# Altium footprint library SubG.PcbLib: 21 footprints (part 2 of 2)
Each footprint in its own frame and in the unit in brackets; x right, y up, seen from the top. Pads: shape width x height; smd on the part's side, far side on the other; paste and mask are expansions set on the pad; w line width, h text height; cw(c..) or ccw(c..) is an arc to the next point about the centre after c.
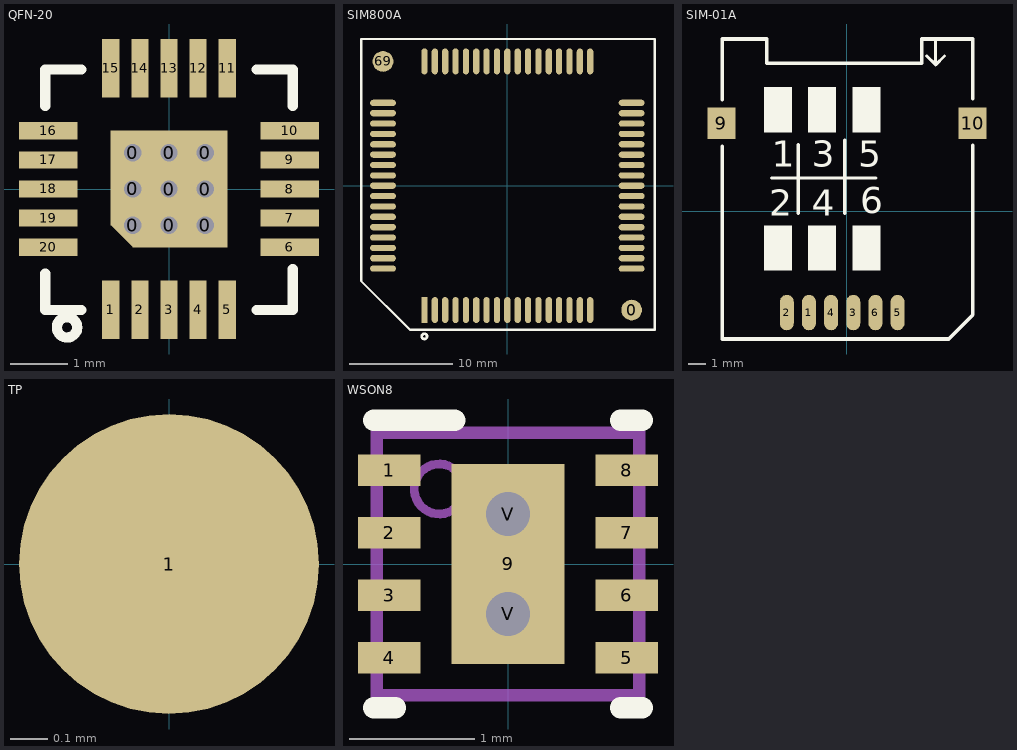
[diagram p1: the footprints below, top view; thin cyan lines are the x and y axes]

## QFN-20 [mil] "SI4463"
pads (29):
  rect 21x21 / inner rect 30x30 / far side rect 30x30 hole 12 rot 135: 0(-25,-25)
  rect 30x50 / inner rect 30x30 / far side rect 30x30 hole 12: 0(-25,0)
  rect 30x30 hole 12: 0(-25,25) 0(0,25) 0(25,-25) 0(25,0) 0(25,25)
  rect 50x30 / inner rect 30x30 / far side rect 30x30 hole 12: 0(0,-25)
  round 30 / inner rect 30x30 / far side rect 30x30 hole 12: 0(0,0)
  rect 11.81x40 smd: 1(-40,-83) 2(-20,-83) 3(0,-83) 4(20,-83) 5(40,-83) 11(40,83) 12(20,83) 13(0,83) 14(-20,83) 15(-40,83)
  rect 40x11.81 smd: 6(83,-40) 7(83,-20) 8(83,0) 9(83,20) 10(83,40) 16(-83,40) 17(-83,20) 18(-83,0) 19(-83,-20) 20(-83,-40)
Top Overlay:
  circle w7: c-70,-95 r7
  lines w7: -85,-58 -85,-83 -60,-83 ; -85,57 -85,82 -60,82 ; 60,-83 85,-83 85,-58 ; 60,82 85,82 ; 70,82 85,82 ; 85,-73 85,-55 ; 85,57 85,82

## SIM800A [mm] "SIM800A GPRS"
pads (70):
  round 2 smd: 0(12,-12) 69(-12,12)
  rect 0.6x2.5 smd: 1(-8,-12)
  oval 0.6x2.5 smd: 2(-7,-12) 3(-6,-12) 4(-5,-12) 5(-4,-12) 6(-3,-12) 7(-2,-12) 8(-1,-12) 9(0,-12) 10(1,-12) 11(2,-12) 12(3,-12) 13(4,-12) 14(5,-12) 15(6,-12) 16(7,-12) 17(8,-12) 35(8,12) 36(7,12) 37(6,12) 38(5,12) 39(4,12) 40(3,12) 41(2,12) 42(1,12) 43(0,12) 44(-1,12) 45(-2,12) 46(-3,12) 47(-4,12) 48(-5,12) 49(-6,12) 50(-7,12) 51(-8,12)
  oval 2.5x0.6 smd: 18(12,-8) 19(12,-7) 20(12,-6) 21(12,-5) 22(12,-4) 23(12,-3) 24(12,-2) 25(12,-1) 26(12,0) 27(12,1) 28(12,2) 29(12,3) 30(12,4) 31(12,5) 32(12,6) 33(12,7) 34(12,8) 52(-12,8) 53(-12,7) 54(-12,6) 55(-12,5) 56(-12,4) 57(-12,3) 58(-12,2) 59(-12,1) 60(-12,0) 61(-12,-1) 62(-12,-2) 63(-12,-3) 64(-12,-4) 65(-12,-5) 66(-12,-6) 67(-12,-7) 68(-12,-8)
Top Overlay:
  circle w0.254: c-8,-14.54 r0.254
  lines w0.203: -14.096,-9.206 -14.096,14.162 14.225,14.162 14.225,-13.905 -9.397,-13.905 -14.096,-9.206

## SIM-01A [mm] "韩荣 mini sim卡座 6pin 翻盖 16.4X14.75mm"
pads (14):
  oval 0.8x2.032 smd: 1(-2.18,-5.811) 2(-3.45,-5.811) 3(0.36,-5.811) 4(-0.91,-5.811) 5(2.9,-5.811) 6(1.63,-5.811)
  rect 1.6x1.8 smd: 9(-7.2,5.039) 10(7.2,5.039)
  rect 1.6x2.6 on Top Overlay: ""(-3.965,-2.109) ""(-3.965,5.811) ""(-1.425,-2.109) ""(-1.425,5.811) ""(1.115,-2.109) ""(1.115,5.811)
Top Overlay:
  lines w0.178: -4.318,1.905 1.651,1.905 ; -2.794,-0.127 -2.794,3.81 ; -0.127,-0.127 -0.127,0.127 -0.127,4.064 ; 4.572,8.89 5.08,8.382 ; 5.08,9.865 5.08,8.382 ; 5.588,8.89 5.08,8.382
  lines w0.203: -7.151,3.714 -7.151,-7.327 5.821,-7.327 7.2,-5.948 7.2,3.769 ; -7.151,6.381 -7.151,9.865 -4.611,9.865 -4.611,8.468 4.279,8.468 4.279,9.865 7.2,9.865 7.2,6.436
  text "6" at 0.762,-0.127 h1.5
  text "5" at 0.635,2.54 h1.5
  text "4" at -2.032,-0.254 h1.5
  text "3" at -2.032,2.54 h1.5
  text "2" at -4.445,-0.254 h1.5
  text "1" at -4.318,2.54 h1.5

## TP [mm] "测试点"
pads (1):
  round 0.8 smd: 1(0,0)

## WSON8 [mm] "TRF37A73"
pads (11):
  rect 0.5x0.25 smd paste-0.102 mask+0.051: 1(-0.95,0.75) 2(-0.95,0.25) 3(-0.95,-0.25) 4(-0.95,-0.75) 5(0.95,-0.75) 6(0.95,-0.25) 7(0.95,0.25) 8(0.95,0.75)
  rect 0.9x1.6 smd paste-0.45 mask+0.051: 9(0,0)
  round 0.7 / inner round 1.524 / far side round 0.5 hole 0.35 mask+0.076: V(0,-0.4) V(0,0.4)
Top Overlay:
  lines w0.17: -1.075,-1.15 -0.9,-1.15 ; -1.075,1.15 -0.425,1.15 ; 0.9,-1.15 1.075,-1.15 ; 0.9,1.15 1.075,1.15
Top Paste:
  region: -0.427,0.733 -0.427,-0.733 0.427,-0.733 0.427,0.733
Mechanical 13:
  circle w0.07: c-0.55,0.6 r0.2
  lines w0.1: -1.05,-1.05 -1.05,1.05 1.05,1.05 1.05,-1.05 -1.05,-1.05
3D body: height 0.25, standoff 0, extent 0,0 0.254,0.254